# EAGLE library part AMPMODU_SHROUDED_FEMALE_HEADER_0.1_8POS (library TE)
AMPMODU Mod II Receptacle Assembly, Dual-Row, 0.1"x0.1" Centerline, Female, 8 Positions Datasheet: http://datasheet.octopart.com/5-534206-4-Tyco-Electronics-datasheet-11077762.pdf
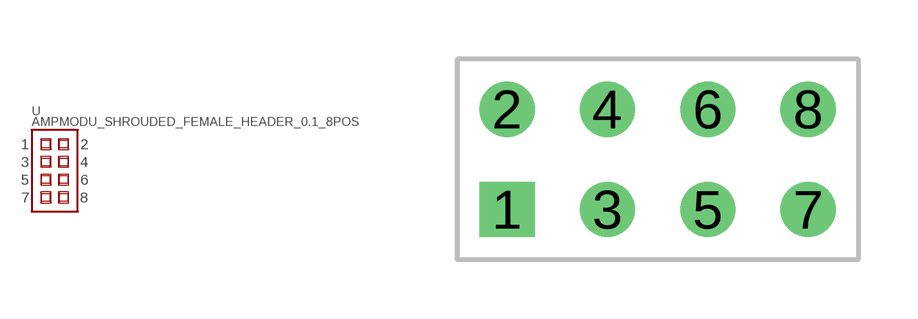
[diagram p3: symbol with the pads of 5-534206-4_8POS_PIN_HEADER; footprint 5-534206-4_8POS_PIN_HEADER]

Designator prefix -

## AMPMODU_SHROUDED_FEMALE_HEADER_0.1_8POS (PARTNO: 5-534206-4)  [5-534206-4_8POS_PIN_HEADER]
1  1
2  2
3  3
4  4
5  5
6  6
7  7
8  8

## Footprint 5-534206-4_8POS_PIN_HEADER (pad centres in mm)
drill 0.889 square: 1 -3.81,-1.27
drill 0.889 round: 2 -3.81,1.27; 3 -1.27,-1.27; 4 -1.27,1.27; 5 1.27,-1.27; 6 1.27,1.27; 7 3.81,-1.27; 8 3.81,1.27